# Altium footprint library STMM-117-XX-XX-D.PcbLib: 1 footprints
Each footprint in its own frame and in the unit in brackets; x right, y up, seen from the top. Pads: shape width x height; smd on the part's side, far side on the other; paste and mask are expansions set on the pad; w line width, h text height; cw(c..) or ccw(c..) is an arc to the next point about the centre after c.
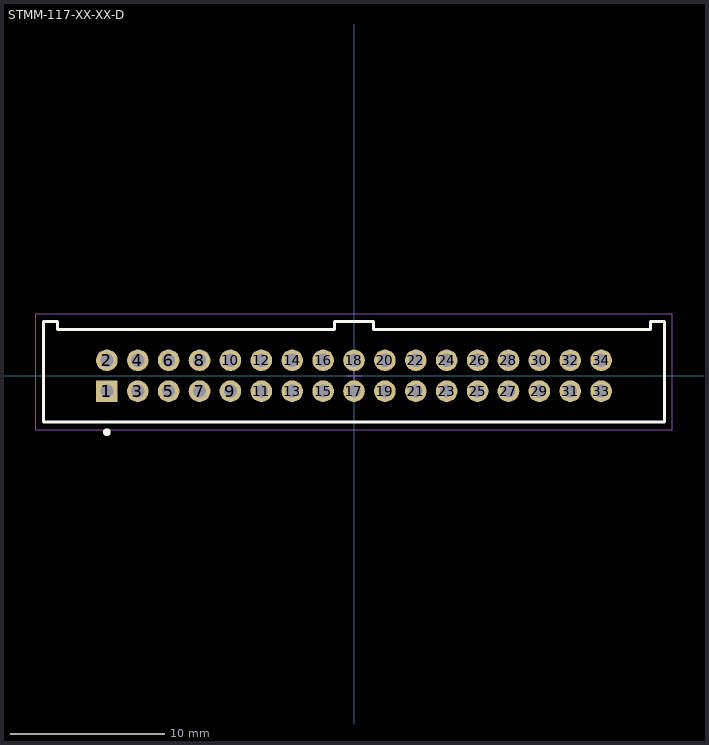
[diagram p0: the footprint, top view; thin cyan lines are the x and y axes]

## STMM-117-XX-XX-D [mm] "2.00mm pitch, 34 pin, terminal strip; shrouded, double row, PTH"
height 4.8
pads (34):
  rect 1.4x1.4 / inner round 1.4 / far side rect 1.4x1.4 hole 0.85 mask+0: 1(-16,-1)
  round 1.4 hole 0.85 mask+0: 2(-16,1) 3(-14,-1) 4(-14,1) 5(-12,-1) 6(-12,1) 7(-10,-1) 8(-10,1) 9(-8,-1) 10(-8,1) 11(-6,-1) 12(-6,1) 13(-4,-1) 14(-4,1) 15(-2,-1) 16(-2,1) 17(0,-1) 18(0,1) 19(2,-1) 20(2,1) 21(4,-1) 22(4,1) 23(6,-1) 24(6,1) 25(8,-1) 26(8,1) 27(10,-1) 28(10,1) 29(12,-1) 30(12,1) 31(14,-1) 32(14,1) 33(16,-1) 34(16,1)
Top Overlay:
  circle w0.25: c-16,-3.65 r0.125
  lines w0.2: -20.1,-3 -20.1,3.5 -19.2,3.5 -19.2,3 -1.25,3 -1.25,3.5 1.25,3.5 1.25,3 19.2,3 19.2,3.5 20.1,3.5 20.1,-3 -20.1,-3
Mechanical 12:
  lines w0.001: -20.1,-3 -20.1,3.5 -19.2,3.5 -19.2,3 -1.25,3 -1.25,3.5 1.25,3.5 1.25,3 19.2,3 19.2,3.5 20.1,3.5 20.1,-3 -20.1,-3
Mechanical 13:
  lines w0.1: -20.1,-3 -20.1,3.5 -19.2,3.5 -19.2,3 -1.25,3 -1.25,3.5 1.25,3.5 1.25,3 19.2,3 19.2,3.5 20.1,3.5 20.1,-3 -20.1,-3
  text ".Designator" at 0,-0.127 h1.52
Mechanical 15:
  lines w0.05: -0.5,0 0.5,0 ; 0,-0.5 0,0.5 ; -20.6,-3.5 -20.6,4 20.6,4 20.6,-3.5 -20.6,-3.5